# Altium schematic symbol library Inductor.SchLib: 1 symbol
Pins are listed as number, name and electrical type; pins without a type are passive.

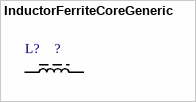
[diagram p0: symbol InductorFerriteCoreGeneric]

## InductorFerriteCoreGeneric
designator L?, comment ?
Name: ?
pins: 1, 2